# EAGLE library part DS1302 (library ds1302)
Real-time clock (RTC) counts seconds, minutes hours, date of the month, month, day of the week, and year with leap-year compensation valid up to 2100
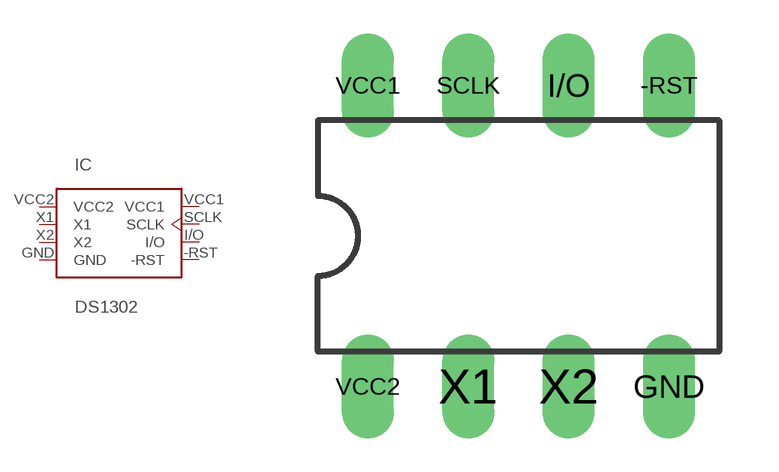
[diagram p0: symbol with the pads of DIL08; footprint DIL08]

Designator prefix IC

## DS1302  [DIL08]
-RST  -RST
GND  GND  pas
I/O  I/O
SCLK  SCLK  hiz
VCC1  VCC1  sup
VCC2  VCC2  sup
X1  X1  hiz
X2  X2  hiz

## Footprint DIL08 (pad centres in mm)
Dual In Line Package
drill 0.813 long: -RST 3.81,3.81; GND 3.81,-3.81; I/O 1.27,3.81; SCLK -1.27,3.81; VCC1 -3.81,3.81; VCC2 -3.81,-3.81; X1 -1.27,-3.81; X2 1.27,-3.81